# EAGLE library part SP3004-04XTG (library TVS)
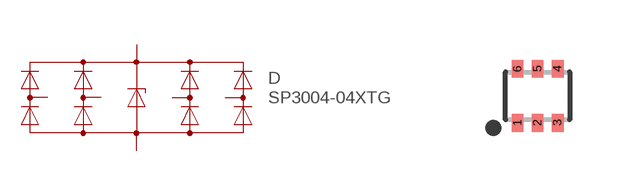
[diagram p0: symbol with the pads of SOT563; footprint SOT563]

Designator prefix D

## SP3004-04XTG  [SOT563]
1  IO1
2  GND
3  IO2
4  IO3
5  VCC
6  IO4

## Footprint SOT563 (pad centres in mm)
smd 0.3 x 0.45: 1 -0.5,-0.675; 2 0,-0.675; 3 0.5,-0.675; 4 0.5,0.675; 5 0,0.675; 6 -0.5,0.675